# EAGLE library part LTC4365CTS8TRMPBF (library LTC4365-Supply-Controller)
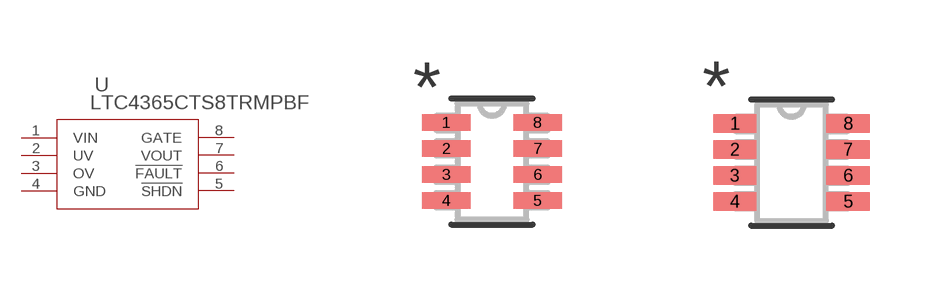
[diagram p0: symbol with the pads of TSOT-23_TS8; footprints TSOT-23_TS8, TSOT-23_TS8-M]

Designator prefix U

## LTC4365CTS8TRMPBF (BUILT_BY: EMA_UL_Team; MANUFACTURER_PART_NUMBER: LTC4365CTS8#TRMPBF; VENDOR: Linear Technology)  [TSOT-23_TS8]
1  VIN  in
2  UV  in
3  OV  in
4  GND  pwr
5  !SHDN  in
6  !FAULT  out
7  VOUT  out
8  GATE  out

## LTC4365CTS8TRMPBFTSOT-23_TS8-M (BUILT_BY: EMA_UL_Team; MANUFACTURER_PART_NUMBER: LTC4365CTS8#TRMPBF; VENDOR: Linear Technology)  [TSOT-23_TS8-M]
Pads as for TSOT-23_TS8

## LTC4365CTS8TRMPBFTSOT-23_TS8-L (BUILT_BY: EMA_UL_Team; MANUFACTURER_PART_NUMBER: LTC4365CTS8#TRMPBF; VENDOR: Linear Technology)  [TSOT-23_TS8-L]
Pads as for TSOT-23_TS8

## Footprint TSOT-23_TS8 (pad centres in mm)
smd 1.219 x 0.406: 1 -1.143,0.975; 2 -1.143,0.325; 3 -1.143,-0.325; 4 -1.143,-0.975; 5 1.143,-0.975; 6 1.143,-0.325; 7 1.143,0.325; 8 1.143,0.975

## Footprint TSOT-23_TS8-M (pad centres in mm)
smd 1.079 x 0.457: 1 -1.416,0.975; 2 -1.416,0.325; 3 -1.416,-0.325; 4 -1.416,-0.975; 5 1.416,-0.975; 6 1.416,-0.325; 7 1.416,0.325; 8 1.416,0.975

## Footprint TSOT-23_TS8-L (pad centres in mm)
smd 0.673 x 0.356: 1 -1.213,0.975; 2 -1.213,0.325; 3 -1.213,-0.325; 4 -1.213,-0.975; 5 1.213,-0.975; 6 1.213,-0.325; 7 1.213,0.325; 8 1.213,0.975